# Altium footprint library USB_B.PcbLib: 1 footprints
Each footprint in its own frame and in the unit in brackets; x right, y up, seen from the top. Pads: shape width x height; smd on the part's side, far side on the other; paste and mask are expansions set on the pad; w line width, h text height; cw(c..) or ccw(c..) is an arc to the next point about the centre after c.
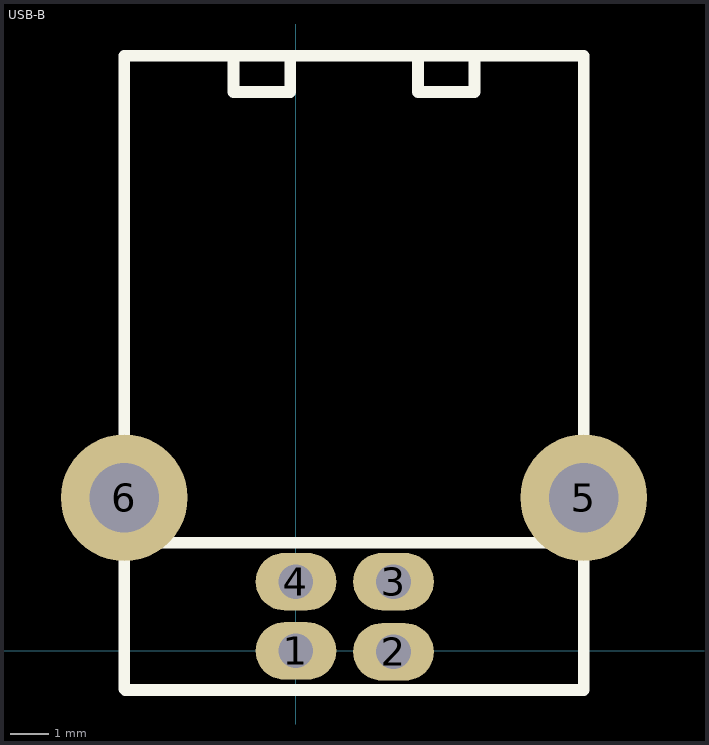
[diagram p0: the footprint, top view; thin cyan lines are the x and y axes]

## USB-B [mm]
pads (6):
  oval 2.1x1.5 hole 0.9: 1(0,0) 2(2.54,-0.025) 3(2.54,1.803) 4(0,1.803)
  round 3.3 hole 1.8: 5(7.493,3.988) 6(-4.47,3.988)
Top Overlay:
  lines w0.305: -4.47,2.819 7.468,2.819 ; -1.625,15.494 -1.625,14.554 -0.152,14.554 -0.152,15.469 ; 3.175,15.469 3.175,14.554 4.649,14.554 4.649,15.494 ; -4.47,-0.991 -4.47,15.494 7.493,15.494 7.493,-1.016 -4.445,-1.016 -4.47,-0.991